# EAGLE library part 53015-07 (library OSSI)
Molex 53015-07 Right Anlge 2mm pitch
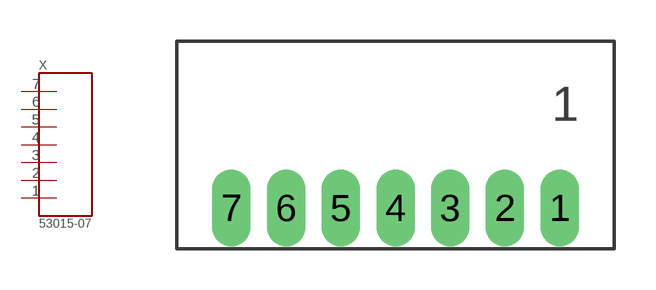
[diagram p58: symbol with the pads of 53015-07; footprint 53015-07]

Designator prefix X

## 53015-07  [53015-07]
1  1
2  2
3  3
4  4
5  5
6  6
7  7

## Footprint 53015-07 (pad centres in mm)
drill 0.9 long: 1 6,0; 2 4,0; 3 2,0; 4 0,0; 5 -2,0; 6 -4,0; 7 -6,0